# Altium footprint library pwir21-NUCLEO-adapter.PcbLib: 2 footprints
Each footprint in its own frame and in the unit in brackets; x right, y up, seen from the top. Pads: shape width x height; smd on the part's side, far side on the other; paste and mask are expansions set on the pad; w line width, h text height; cw(c..) or ccw(c..) is an arc to the next point about the centre after c.
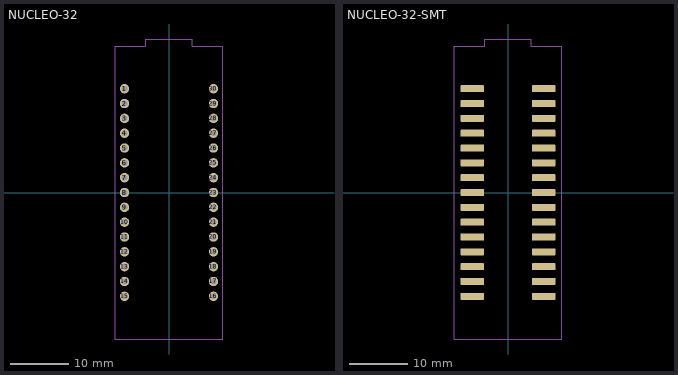
[diagram p0: the footprints below, top view; thin cyan lines are the x and y axes]

## NUCLEO-32 [mm]
pads (30):
  round 1.6 hole 1: 1(-7.62,17.78) 2(-7.62,15.24) 3(-7.62,12.7) 4(-7.62,10.16) 5(-7.62,7.62) 6(-7.62,5.08) 7(-7.62,2.54) 8(-7.62,0) 9(-7.62,-2.54) 10(-7.62,-5.08) 11(-7.62,-7.62) 12(-7.62,-10.16) 13(-7.62,-12.7) 14(-7.62,-15.24) 15(-7.62,-17.78) 16(7.62,-17.78) 17(7.62,-15.24) 18(7.62,-12.7) 19(7.62,-10.16) 20(7.62,-7.62) 21(7.62,-5.08) 22(7.62,-2.54) 23(7.62,0) 24(7.62,2.54) 25(7.62,5.08) 26(7.62,7.62) 27(7.62,10.16) 28(7.62,12.7) 29(7.62,15.24) 30(7.62,17.78)
Top 3D Body (Mech13):
  lines w0.2: -9.2,-25.1 -9.2,25.1 -4,25.1 -4,26.3 4,26.3 4,25.1 9.2,25.1 9.2,-25.1 -9.2,-25.1
3D body: height 8.5, standoff 0, extent 6.37,-19.9 8.87,19.9
3D body: height 8.5, standoff 0, extent -8.87,-19.9 -6.37,19.9

## NUCLEO-32-SMT [mm]
pads (30):
  rrect20% 4x1.2 smd: 1(-6.12,17.78) 2(-6.12,15.24) 3(-6.12,12.7) 4(-6.12,10.16) 5(-6.12,7.62) 6(-6.12,5.08) 7(-6.12,2.54) 8(-6.12,0) 9(-6.12,-2.54) 10(-6.12,-5.08) 11(-6.12,-7.62) 12(-6.12,-10.16) 13(-6.12,-12.7) 14(-6.12,-15.24) 15(-6.12,-17.78) 16(6.12,-17.78) 17(6.12,-15.24) 18(6.12,-12.7) 19(6.12,-10.16) 20(6.12,-7.62) 21(6.12,-5.08) 22(6.12,-2.54) 23(6.12,0) 24(6.12,2.54) 25(6.12,5.08) 26(6.12,7.62) 27(6.12,10.16) 28(6.12,12.7) 29(6.12,15.24) 30(6.12,17.78)
Top 3D Body (Mech13):
  lines w0.2: -9.2,-25.1 -9.2,25.1 -4,25.1 -4,26.3 4,26.3 4,25.1 9.2,25.1 9.2,-25.1 -9.2,-25.1
3D body: height 8.5, standoff 0, extent 6.37,-19.9 8.87,19.9
3D body: height 8.5, standoff 0, extent -8.87,-19.9 -6.37,19.9